# Altium schematic symbol library WE-BMS.SchLib: 9 symbols
Pins are listed as number, name and electrical type; pins without a type are passive.

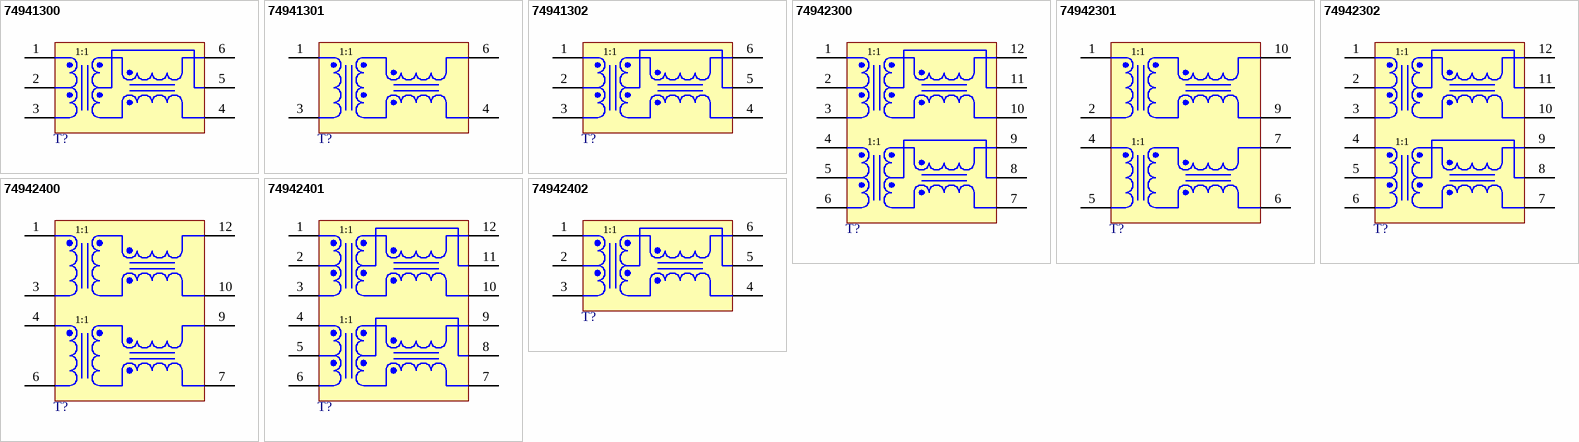
[diagram p0: symbols 74941300 to 74942402]

## 74941300
designator T?  (value not drawn)
WE-BMS Transformer for Battery Management Systems, SMT, 1 Port, 1000VDC; Manufacturer: Wurth Elektronik; Creepage Distance: 6mm; Insulation Test Voltage: 4300VDC; Number of Ports: 1; Manufacturer Part Number: 74941300; Category: Signal Transformers; Match Code: WE-BMS; ComponentLink1Description: Website Link; ComponentLink1URL: https://www.we-online.com/redexpert/article/74941300?ad; ComponentLink2Description: Datasheet Link; ComponentLink2URL: https://www.we-online.com/redexpert/spec/74941300?ad; Mount: Surface Mount; Operating Temperature Max: 125°C; Operating Temperature Min: -40°C; Packaging: Tape and Reel; Length: 9.5mm; Width: 7.6mm; Height: 5.5mm; Working Voltage: 1000VDC
footprint 74941300
pins: 1, 2, 3, 4, 5, 6
text: 1:1

## 74941301
designator T?  (value not drawn)
WE-BMS Transformer for Battery Management Systems, SMT, 1 Port, 1000VDC; Manufacturer: Wurth Elektronik; Creepage Distance: 6mm; Insulation Test Voltage: 4300VDC; Number of Ports: 1; Manufacturer Part Number: 74941301; Category: Signal Transformers; Match Code: WE-BMS; ComponentLink1Description: Website Link; ComponentLink1URL: https://www.we-online.com/redexpert/article/74941301?ad; ComponentLink2Description: Datasheet Link; ComponentLink2URL: https://www.we-online.com/redexpert/spec/74941301?ad; Mount: Surface Mount; Operating Temperature Max: 125°C; Operating Temperature Min: -40°C; Packaging: Tape and Reel; Length: 9.5mm; Width: 7.6mm; Height: 5.5mm; Working Voltage: 1000VDC
footprint 74941301
pins: 1, 3, 4, 6
text: 1:1

## 74941302
designator T?  (value not drawn)
WE-BMS Transformer for Battery Management Systems, SMT, 1 Port, 1000VDC; Manufacturer: Wurth Elektronik; Creepage Distance: 10mm; Insulation Test Voltage: 4300VDC; Number of Ports: 1; Manufacturer Part Number: 74941302; Category: Signal Transformers; Match Code: WE-BMS; ComponentLink1Description: Website Link; ComponentLink1URL: https://www.we-online.com/redexpert/article/74941302?ad; ComponentLink2Description: Datasheet Link; ComponentLink2URL: https://www.we-online.com/redexpert/spec/74941302?ad; Mount: Surface Mount; Operating Temperature Max: 125°C; Operating Temperature Min: -40°C; Packaging: Tape and Reel; Length: 15.4mm; Width: 9.5mm; Height: 3.45mm; Working Voltage: 1000VDC
footprint 74941302
pins: 1, 2, 3, 4, 5, 6
text: 1:1

## 74942300
designator T?  (value not drawn)
WE-BMS Transformer for Battery Management Systems, SMT, 2 Port, 1000VDC; Manufacturer: Wurth Elektronik; Creepage Distance: 10mm; Insulation Test Voltage: 4300VDC; Number of Ports: 2; Manufacturer Part Number: 74942300; Category: Signal Transformers; Match Code: WE-BMS; ComponentLink1Description: Website Link; ComponentLink1URL: https://www.we-online.com/redexpert/article/74942300?ad; ComponentLink2Description: Datasheet Link; ComponentLink2URL: https://www.we-online.com/redexpert/spec/74942300?ad; Mount: Surface Mount; Operating Temperature Max: 125°C; Operating Temperature Min: -40°C; Packaging: Tape and Reel; Length: 14.7mm; Width: 15.1mm; Height: 3.45mm; Working Voltage: 1000VDC
footprint 74942300
pins: 1, 2, 3, 4, 5, 6, 7, 8, 9, 10, 11, 12
text: 1:1

## 74942301
designator T?  (value not drawn)
WE-BMS Transformer for Battery Management Systems, SMT, 2 Port, 1000VDC; Manufacturer: Wurth Elektronik; Creepage Distance: 10mm; Insulation Test Voltage: 4300VDC; Number of Ports: 2; Manufacturer Part Number: 74942301; Category: Signal Transformers; Match Code: WE-BMS; ComponentLink1Description: Website Link; ComponentLink1URL: https://www.we-online.com/redexpert/article/74942301?ad; ComponentLink2Description: Datasheet Link; ComponentLink2URL: https://www.we-online.com/redexpert/spec/74942301?ad; Mount: Surface Mount; Operating Temperature Max: 125°C; Operating Temperature Min: -40°C; Packaging: Tape and Reel; Length: 14.9mm; Width: 15.1mm; Height: 3.45mm; Working Voltage: 1000VDC
footprint 74942301
pins: 1, 2, 4, 5, 6, 7, 9, 10
text: 1:1

## 74942302
designator T?  (value not drawn)
WE-BMS Transformer for Battery Management Systems, SMT, 2 Port, 1000VDC; Manufacturer: Wurth Elektronik; Creepage Distance: 10mm; Insulation Test Voltage: 4300VDC; Number of Ports: 2; Manufacturer Part Number: 74942302; Category: Signal Transformers; Match Code: WE-BMS; ComponentLink1Description: Website Link; ComponentLink1URL: https://www.we-online.com/redexpert/article/74942302?ad; ComponentLink2Description: Datasheet Link; ComponentLink2URL: https://www.we-online.com/redexpert/spec/74942302?ad; Mount: Surface Mount; Operating Temperature Max: 125°C; Operating Temperature Min: -40°C; Packaging: Tape and Reel; Length: 15.4mm; Width: 15.1mm; Height: 3.45mm; Working Voltage: 1000VDC
footprint 74942302
pins: 1, 2, 3, 4, 5, 6, 7, 8, 9, 10, 11, 12
text: 1:1

## 74942400
designator T?  (value not drawn)
WE-BMS Transformer for Battery Management Systems, SMT, 2 Port, 1500VDC; Manufacturer: Wurth Elektronik; Creepage Distance: 15mm; Insulation Test Voltage: 6400VDC; Number of Ports: 2; Manufacturer Part Number: 74942400; Category: Signal Transformers; Match Code: WE-BMS; ComponentLink1Description: Website Link; ComponentLink1URL: https://www.we-online.com/redexpert/article/74942400?ad; ComponentLink2Description: Datasheet Link; ComponentLink2URL: https://www.we-online.com/redexpert/spec/74942400?ad; Mount: Surface Mount; Operating Temperature Max: 125°C; Operating Temperature Min: -40°C; Packaging: Tape and Reel; Length: 27.85mm; Width: 15.45mm; Height: 4.85mm; Working Voltage: 1500VDC
footprint 74942400
pins: 1, 3, 4, 6, 7, 9, 10, 12
text: 1:1

## 74942401
designator T?  (value not drawn)
WE-BMS Transformer for Battery Management Systems, SMT, 2 Port, 1500VDC; Manufacturer: Wurth Elektronik; Creepage Distance: 15mm; Insulation Test Voltage: 6400VDC; Number of Ports: 2; Manufacturer Part Number: 74942401; Category: Signal Transformers; Match Code: WE-BMS; ComponentLink1Description: Website Link; ComponentLink1URL: https://www.we-online.com/redexpert/article/74942401?ad; ComponentLink2Description: Datasheet Link; ComponentLink2URL: https://www.we-online.com/redexpert/spec/74942401?ad; Mount: Surface Mount; Operating Temperature Max: 125°C; Operating Temperature Min: -40°C; Packaging: Tape and Reel; Length: 27.85mm; Width: 15.45mm; Height: 4.85mm; Working Voltage: 1500VDC
footprint 74942401
pins: 1 RD+, 2 CRD, 3 RD-, 4 TD+, 5 CTD, 6 TD-, 7 TX, 8 CTX, 9 TX+, 10 RX, 11 CRX, 12 RX+
text: 1:1

## 74942402
designator T?  (value not drawn)
WE-BMS Transformer for Battery Management Systems, SMT, 1 Port, 1500VDC; Manufacturer: Wurth Elektronik; Creepage Distance: 15mm; Insulation Test Voltage: 6400VDC; Number of Ports: 1; Manufacturer Part Number: 74942402; Category: Signal Transformers; Match Code: WE-BMS; ComponentLink1Description: Website Link; ComponentLink1URL: https://www.we-online.com/redexpert/article/74942402?ad; ComponentLink2Description: Datasheet Link; ComponentLink2URL: https://www.we-online.com/redexpert/spec/74942402?ad; Mount: Surface Mount; Operating Temperature Max: 125°C; Operating Temperature Min: -40°C; Packaging: Tape and Reel; Length: 28mm; Width: 12.5mm; Height: 7.3mm; Working Voltage: 1500VDC
footprint 74942402
pins: 1, 2, 3, 4, 5, 6
text: 1:1